# EAGLE library part LT3580 (library MultiSpork-parts)
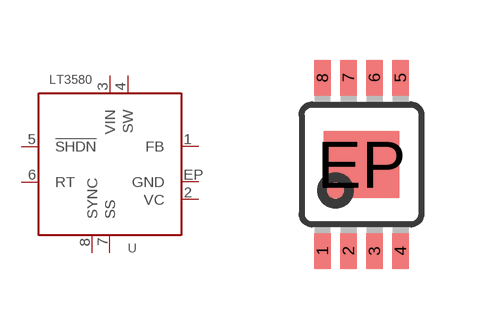
[diagram p1: symbol with the pads of MSOP8; footprint MSOP8]

Designator prefix U

## LT3580EMS8E  [MSOP8]
1  FB
2  VC
3  VIN
4  SW
5  !SHDN!
6  RT
7  SS
8  SYNC
EP  GND

## Footprint MSOP8 (pad centres in mm)
8M, 8-Lead, 0.118" Wide, Miniature Small Outline Package MSOP 8M-Package doc1097.pdf
smd 0.42 x 0.89: 1 -0.975,-2.17; 2 -0.325,-2.17; 3 0.325,-2.17; 4 0.975,-2.17; 5 0.975,2.17; 6 0.325,2.17; 7 -0.325,2.17; 8 -0.975,2.17
smd 1.88 x 1.68: EP 0,0